# EAGLE library part LM3150MH/NOPB (library 5v-LM3150MH)
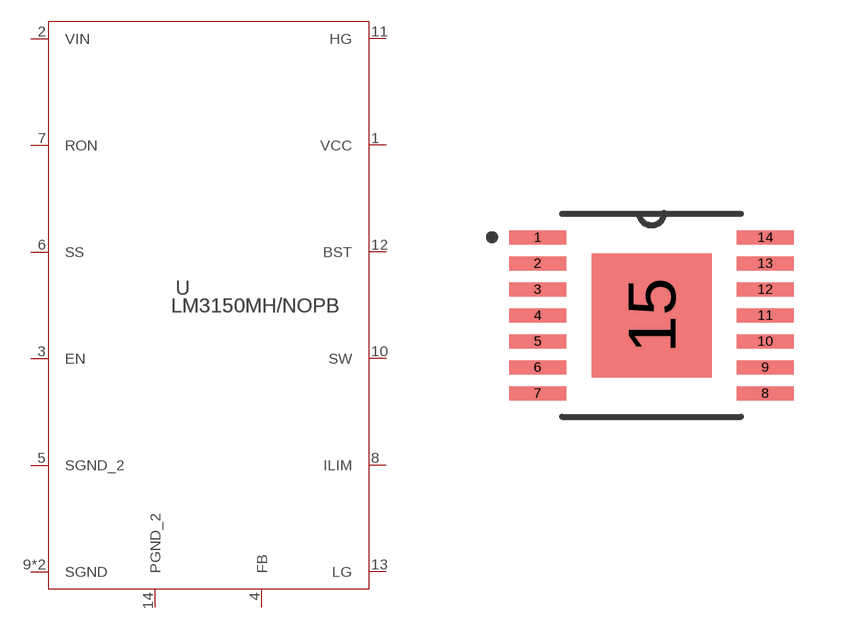
[diagram p0: symbol with the pads of MXA14A; footprint MXA14A]

Designator prefix -

## LM3150MH/NOPB (DATASHEETURL: httpwww.ti.comproductlm3150; FREQUENCY: 1000000.0; IMAX: 12.0; MANUFACTURER_NAME: Texas Instruments; MANUFACTURER_PART_NUMBER: LM3150MHNOPB; MKTG_PACKAGE: NA; NSID: LM3150MHNOPB; PACKAGE: NA; VENDOR: Texas Instruments)  [MXA14A]
1  VCC  pas
2  VIN  pas
3  EN  pas
4  FB  pas
5  SGND_2  pas
6  SS  pas
7  RON  pas
8  ILIM  pas
9  SGND  pas
10  SW  pas
11  HG  pas
12  BST  pas
13  LG  pas
14  PGND_2  pas
15  SGND  pas

## Footprint MXA14A (pad centres in mm)
smd 1.422 x 0.356: 1 -2.845,1.95; 2 -2.845,1.3; 3 -2.845,0.65; 4 -2.845,0; 5 -2.845,-0.65; 6 -2.845,-1.3; 7 -2.845,-1.95; 8 2.845,-1.95; 9 2.845,-1.3; 10 2.845,-0.65; 11 2.845,0; 12 2.845,0.65; 13 2.845,1.3; 14 2.845,1.95
smd 2.997 x 3.099: 15 0,0